# EAGLE library part MICROSD_112I_TDAR (library trafshlib)
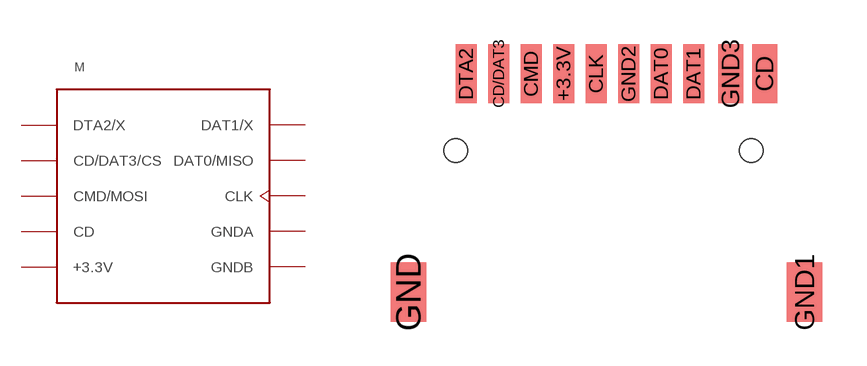
[diagram p4: symbol with the pads of MICROSD_112I-TDAR-R; footprint MICROSD_112I-TDAR-R]

Designator prefix M

## MICROSD_112I_TDAR  [MICROSD_112I-TDAR-R]
+3.3V  +3.3V  pwr
CD  CD  out
CD/DAT3  CD/DAT3/CS
CLK  CLK  in
CMD  CMD/MOSI  in
DAT0  DAT0/MISO  out
DAT1  DAT1/X
DTA2  DTA2/X
GND  GNDA  pwr
GND1  GNDB  pwr
GND2  GNDA  pwr
GND3  GNDB  pwr

## Footprint MICROSD_112I-TDAR-R (pad centres in mm)
smd 0.7 x 2: +3.3V 3.3,0; CD/DAT3 1.1,0; CLK 4.4,0; CMD 2.2,0; DAT0 6.6,0; DAT1 7.7,0; DTA2 0,0; GND2 5.5,0
smd 0.85 x 2: CD 10.1,0; GND3 8.95,0
smd 1.2 x 2: GND -1.95,-7.4; GND1 11.45,-7.4
hole 0.8 at -0.35,-2.6
hole 0.8 at 9.65,-2.6